# EAGLE library part CD74HC04E (library CD74HC04E)
High Speed CMOS Logic Hex Inverters Source: Datasheet <http://www.ti.com/lit/ds/symlink/cd74hc04.pdf>
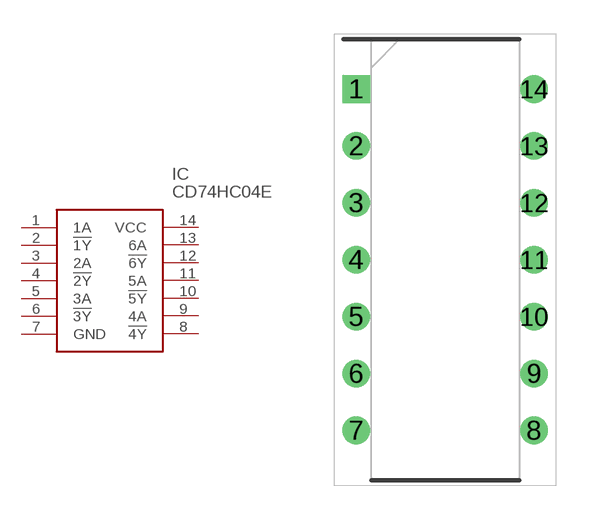
[diagram p0: symbol with the pads of DIP794W53P254L1930H508Q14N; footprint DIP794W53P254L1930H508Q14N]

Designator prefix IC

## CD74HC04E (Description: High Speed CMOS Logic Hex Inverters; Height: 5.08mm; Manufacturer_Name: Texas Instruments; Manufacturer_Part_Number: CD74HC04E; Mouser_Part_Number: 595-CD74HC04E; Mouser_Price-Stock: https://www.mouser.co.uk/ProductDetail/Texas-Instruments/CD74HC04E?qs=st7IWvlL5%2FgJ10Ud3pnBSA%3D%3D)  [DIP794W53P254L1930H508Q14N]
1  1A
2  !1Y
3  2A
4  !2Y
5  3A
6  !3Y
7  GND
8  !4Y
9  4A
10  !5Y
11  5A
12  !6Y
13  6A
14  VCC

## Footprint DIP794W53P254L1930H508Q14N (pad centres in mm)
N (R-PDIP-T)
drill 0.73 pad 1.13 square: 1 -3.97,7.62
drill 0.73 pad 1.13: 2 -3.97,5.08; 3 -3.97,2.54; 4 -3.97,0; 5 -3.97,-2.54; 6 -3.97,-5.08; 7 -3.97,-7.62; 8 3.97,-7.62; 9 3.97,-5.08; 10 3.97,-2.54; 11 3.97,0; 12 3.97,2.54; 13 3.97,5.08; 14 3.97,7.62